# EAGLE library part L4971D013TR (library debauer_ics)
BUCK, 8-55V, 1.5A, 300KHZ, 3.3-50V, SO16- W
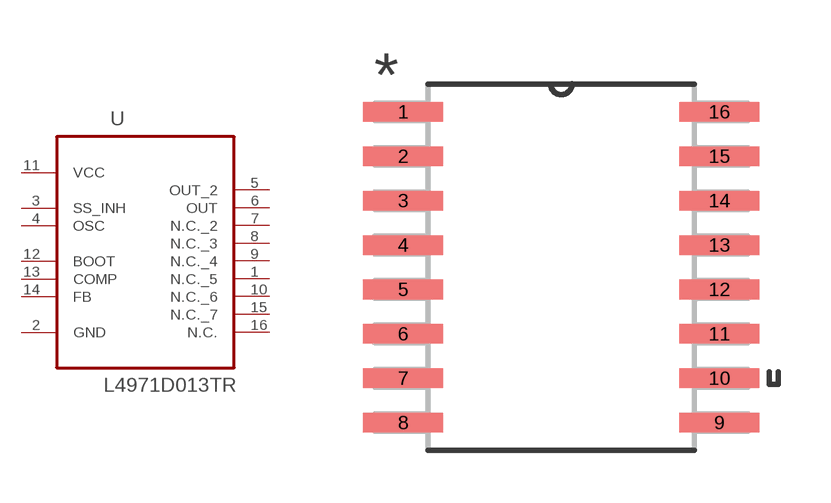
[diagram p9: symbol with the pads of SOIC127P1032X265-16N; footprint SOIC127P1032X265-16N]

Designator prefix U

## L4971D013TR (MOUNT: smd; MPN: L4971D013TR; OC_FARNELL: 2253489; OC_NEWARK: 94W8509; OC_REICHELT: L 4971 D; PACKAGE: SO16- W; SUPPLIER: STMicroelectronics)  [SOIC127P1032X265-16N]
1  N.C._5  nc
2  GND  pwr
3  SS_INH  pas
4  OSC  pas
5  OUT_2  out
6  OUT  out
7  N.C._2  nc
8  N.C._3  nc
9  N.C._4  nc
10  N.C._6  nc
11  VCC  pwr
12  BOOT  pas
13  COMP  pas
14  FB  pas
15  N.C._7  nc
16  N.C.  nc

## Footprint SOIC127P1032X265-16N (pad centres in mm)
smd 2.286 x 0.559: 1 -4.521,4.445; 2 -4.521,3.175; 3 -4.521,1.905; 4 -4.521,0.635; 5 -4.521,-0.635; 6 -4.521,-1.905; 7 -4.521,-3.175; 8 -4.521,-4.445; 9 4.521,-4.445; 10 4.521,-3.175; 11 4.521,-1.905; 12 4.521,-0.635; 13 4.521,0.635; 14 4.521,1.905; 15 4.521,3.175; 16 4.521,4.445